# Altium integrated library Infineon_Power_Supply_Voltage_Regulator.IntLib: 346 symbols (part 9 of 16)
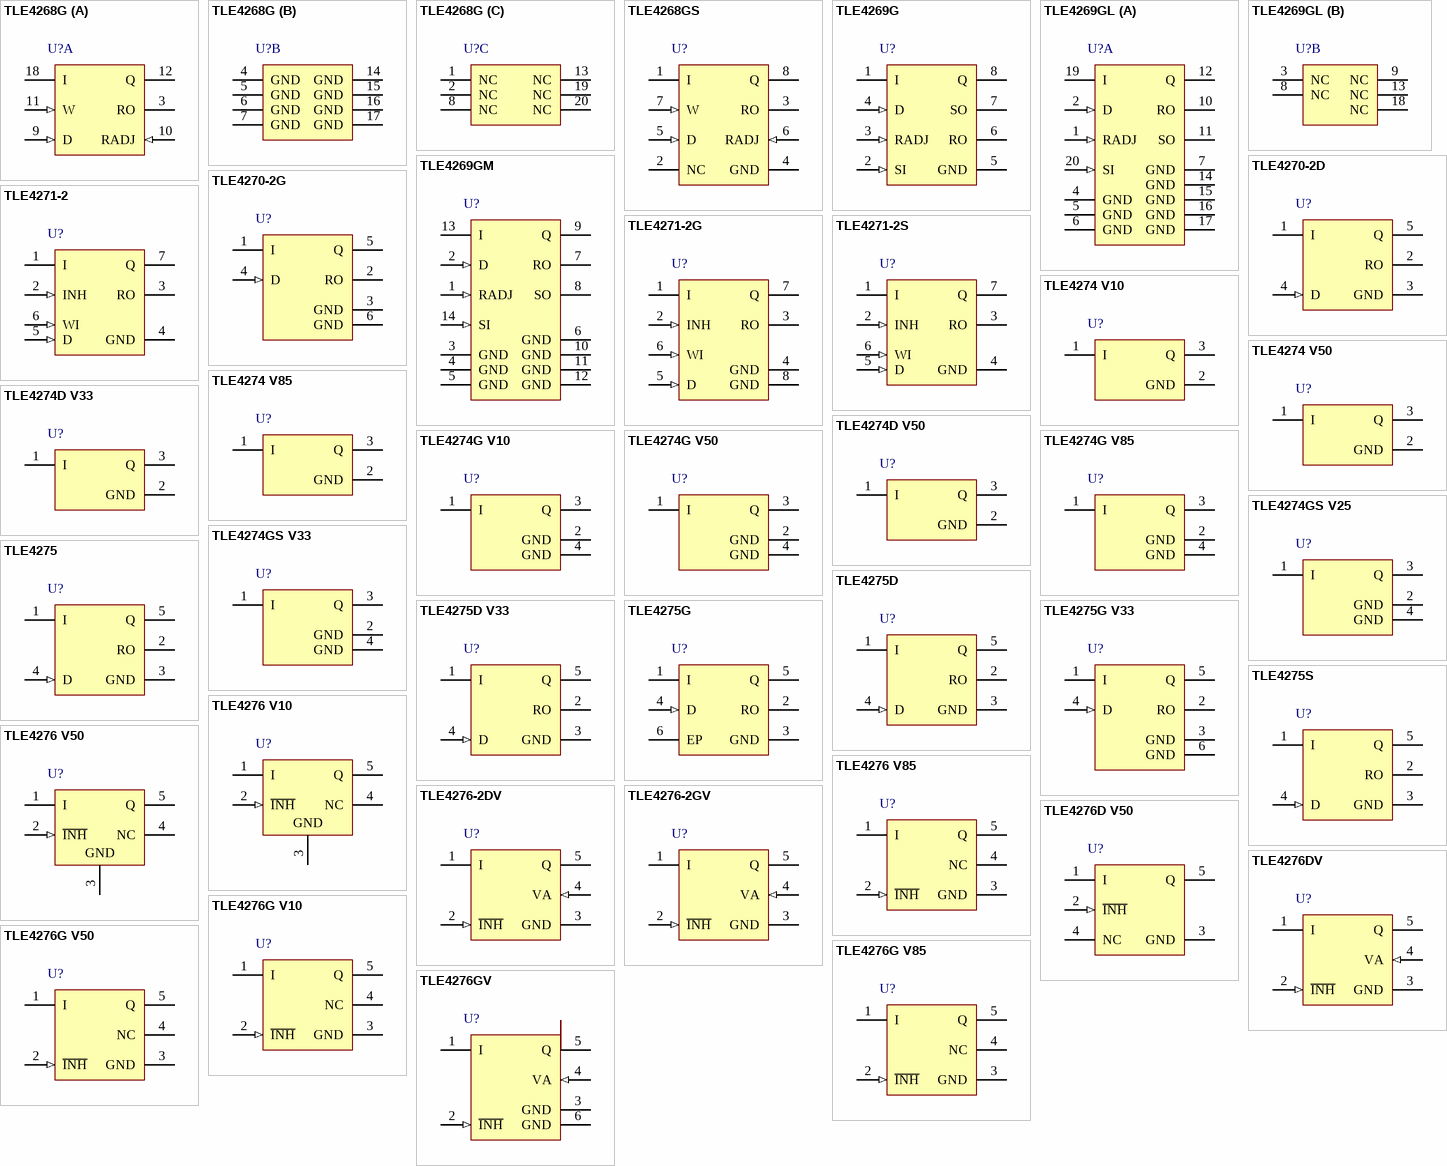
[diagram p17: symbols TLE4268G to TLE4276GV]

## TLE4274 V10
designator U?
Low Drop Voltage Regulator, 10.5 to 40 V Supply, 10 V Output, -40 to 150 degC, PG-TO220-3-1, Tube, Green; Manufacturer: Infineon; PartNumber: TLE4274 V10; Accuracy: 4 %; Dropout Voltage: 250 mV; Green: TRUE; Max. Output Current: 400 mA; Output Voltage: 10V; Regulator Type: single output; Typical Quiescent Current: 100 uA; DatasheetVersion: Rev. 1.7; PackageVersion: Jul-12; PackageReference: PG-TO220-3-1; PackageDescription: 3-Pin Plastic (Green) Transistor Single Outline Package, 10 x 9.25 mm Body, 2.54 mm Pitch; Supplier 1: Digi-Key; Supplier Part Number 1: TLE4274 V10-ND; Halogen-free: TRUE; Operating Range: 10.5 to 40 V; Packing: Tube; Mounting Technology: Through Hole; ComponentLink1Description: Manufacturer URL; ComponentLink1URL: http://www.infineon.com/; ComponentLink2Description: Datasheet; ComponentLink2URL: http://www.infineon.com/dgdl/TLE4274_DS_V17.pdf?folderId=db3a304318f3fe290118f5a433570040&fileId=db3a30431be39b97011c4124fc637944&location=en.Products.Automotive_ICs.Linear_Voltage_Regulators_for_Automotive-Applications.Linear_Voltage_Regulators_-_Selection_Table.DATASHEET.TLE4274_DS_V17.pdf; ComponentLink3Description: Package Specification; ComponentLink3URL: http://www.infineon.com/dgdl/BTS117_DS_14.pdf?folderId=db3a30431400ef68011421b54e2e0564&fileId=db3a30433a747525013abff8302d549c&location=en.Products.Automotive_ICs.Smart_High-_and_Low-Side_Switches.HITFET___TEMPFET__-_Smart_Low-Side_Switches.DATASHEET.BTS117_DS_14.pdf
footprint INF-PG-TO220-3-1 (FM, 3-Leads, Body 10x4.4mm, Pitch 2.54mm)
pins: 1 I (power) "Input; block to ground directly at the IC with a ceramic capacitor.", 2 GND (power) "Ground; Connected to the heatsink of the package.", 3 Q (power) "Output; block to ground with a ceramic capacitor."

## TLE4274 V50
designator U?
Low Drop Voltage Regulator, 5.5 to 40 V Supply, 5 V Output, -40 to 150 degC, PG-TO220-3-1, Tube, Green; Manufacturer: Infineon; PartNumber: TLE4274 V50; Accuracy: 4 %; Dropout Voltage: 250 mV; Green: TRUE; Max. Output Current: 400 mA; Output Voltage: 5V; Regulator Type: single output; Typical Quiescent Current: 100 uA; DatasheetVersion: Rev. 1.7; PackageVersion: Jul-12; PackageReference: PG-TO220-3-1; PackageDescription: 3-Pin Plastic (Green) Transistor Single Outline Package, 10 x 9.25 mm Body, 2.54 mm Pitch; Supplier 1: Digi-Key; Supplier Part Number 1: TLE4274V50IN-ND; Halogen-free: TRUE; Operating Range: 5.5 to 40 V; Packing: Tube; Mounting Technology: Through Hole; ComponentLink1Description: Manufacturer URL; ComponentLink1URL: http://www.infineon.com/; ComponentLink2Description: Datasheet; ComponentLink2URL: http://www.infineon.com/dgdl/TLE4274_DS_V17.pdf?folderId=db3a304318f3fe290118f5a433570040&fileId=db3a30431be39b97011c4124fc637944&location=en.Products.Automotive_ICs.Linear_Voltage_Regulators_for_Automotive-Applications.Linear_Voltage_Regulators_-_Selection_Table.DATASHEET.TLE4274_DS_V17.pdf; ComponentLink3Description: Package Specification; ComponentLink3URL: http://www.infineon.com/dgdl/BTS117_DS_14.pdf?folderId=db3a30431400ef68011421b54e2e0564&fileId=db3a30433a747525013abff8302d549c&location=en.Products.Automotive_ICs.Smart_High-_and_Low-Side_Switches.HITFET___TEMPFET__-_Smart_Low-Side_Switches.DATASHEET.BTS117_DS_14.pdf
footprint INF-PG-TO220-3-1 (FM, 3-Leads, Body 10x4.4mm, Pitch 2.54mm)
pins: 1 I (power) "Input; block to ground directly at the IC with a ceramic capacitor.", 2 GND (power) "Ground; Connected to the heatsink of the package.", 3 Q (power) "Output; block to ground with a ceramic capacitor."

## TLE4274 V85
designator U?
Low Drop Voltage Regulator, 9 to 40 V Supply, 8.5 V Output, -40 to 150 degC, PG-TO220-3-1, Tube, Green; Manufacturer: Infineon; PartNumber: TLE4274 V85; Accuracy: 4 %; Dropout Voltage: 250 mV; Green: TRUE; Max. Output Current: 400 mA; Operating Range: 9 to 40 V; Output Voltage: 8.5V; Regulator Type: single output; Typical Quiescent Current: 100 uA; DatasheetVersion: Rev. 1.7; PackageVersion: Jul-12; PackageReference: PG-TO220-3-1; PackageDescription: 3-Pin Plastic (Green) Transistor Single Outline Package, 10 x 9.25 mm Body, 2.54 mm Pitch; Supplier 1: Digi-Key; Supplier Part Number 1: TLE4274V85-ND; Halogen-free: TRUE; Packing: Tube; Mounting Technology: Through Hole; ComponentLink1Description: Manufacturer URL; ComponentLink1URL: http://www.infineon.com/; ComponentLink2Description: Datasheet; ComponentLink2URL: http://www.infineon.com/dgdl/TLE4274_DS_V17.pdf?folderId=db3a304318f3fe290118f5a433570040&fileId=db3a30431be39b97011c4124fc637944&location=en.Products.Automotive_ICs.Linear_Voltage_Regulators_for_Automotive-Applications.Linear_Voltage_Regulators_-_Selection_Table.DATASHEET.TLE4274_DS_V17.pdf; ComponentLink3Description: Package Specification; ComponentLink3URL: http://www.infineon.com/dgdl/BTS117_DS_14.pdf?folderId=db3a30431400ef68011421b54e2e0564&fileId=db3a30433a747525013abff8302d549c&location=en.Products.Automotive_ICs.Smart_High-_and_Low-Side_Switches.HITFET___TEMPFET__-_Smart_Low-Side_Switches.DATASHEET.BTS117_DS_14.pdf
footprint INF-PG-TO220-3-1 (FM, 3-Leads, Body 10x4.4mm, Pitch 2.54mm)
pins: 1 I (power) "Input; block to ground directly at the IC with a ceramic capacitor.", 2 GND (power) "Ground; Connected to the heatsink of the package.", 3 Q (power) "Output; block to ground with a ceramic capacitor."

## TLE4274D V33
designator U?
3.3 V Voltage Regulator, 4.7 to 40 V Supply, -40 to 150 degC, PG-TO252-3-11, Reel, Green; Manufacturer: Infineon; PartNumber: TLE4274D V33; Accuracy: 4 %; Dropout Voltage: 700 mV; Green: TRUE; Max. Output Current: 400 mA; Output Voltage: 3.3V; Regulator Type: single output; Typical Quiescent Current: 100 uA; DatasheetVersion: Rev. 2.3; PackageVersion: Dec-06; PackageReference: PG-TO252-3-11; PackageDescription: 3-Pin Plastic (Green) Transistor Single Outline Package, 6.5 x 6.12 mm Body, 2.28 mm Pitch; Supplier 1: Mouser; Supplier Part Number 1: 726-TLE4274DV33; Supplier 2: Newark; Supplier Part Number 2: 47W3774; Supplier 3: Farnell; Supplier Part Number 3: 2215557; Supplier 4: Digi-Key; Supplier Part Number 4: TLE4274D V33TR-ND; Supplier 5: Digi-Key; Supplier Part Number 5: TLE4274D V33CT-ND; Supplier 6: Digi-Key; Supplier Part Number 6: TLE4274D V33DKR-ND; Halogen-free: TRUE; Operating Range: 4.7 to 40 V; Packing: Reel; Mounting Technology: Surface Mount; ComponentLink1Description: Manufacturer URL; ComponentLink1URL: http://www.infineon.com/; ComponentLink2Description: Datasheet; ComponentLink2URL: http://www.infineon.com/dgdl/TLE4274v33v25_DS_23.pdf?folderId=db3a30431ff988150120802bce1d257a&fileId=db3a30431ff98815012080310b472588&location=en.Products.Automotive_ICs.Linear_Voltage_Regulators_for_Automotive-Applications.Linear_Voltage_Regulators_-_Selection_Table.DATASHEET.TLE4274v33v25_DS_23.pdf; ComponentLink3Description: Package Specification; ComponentLink3URL: http://www.infineon.com/dgdl/BTS142_DS_13.pdf?folderId=db3a3043163797a6011667aa084c0e01&fileId=db3a3043163797a6011667ac98be0e02&location=en.Products.Automotive_ICs.Smart_High-_and_Low-Side_Switches.HITFET___TEMPFET__-_Smart_Low-Side_Switches.DATASHEET.BTS142_DS_13.pdf
footprint INF-PG-TO252-3-11_N (DPAK, 3-Leads, Body 6.5x6.12mm, Pitch 2.28mm, IPC Medium Density)
footprint INF-PG-TO252-3-11_L (DPAK, 3-Leads, Body 6.5x6.12mm, Pitch 2.28mm, IPC High Density)
footprint INF-PG-TO252-3-11_M (DPAK, 3-Leads, Body 6.5x6.12mm, Pitch 2.28mm, IPC Low Density)
pins: 1 I (power), 2 GND (power), 3 Q (power)

## TLE4274D V50
designator U?
Low Drop Voltage Regulator, 5.5 to 40 V Supply, 5 V Output, -40 to 150 degC, PG-TO252-3-11, Reel, Green; Manufacturer: Infineon; PartNumber: TLE4274D V50; Accuracy: 4 %; Dropout Voltage: 250 mV; Green: TRUE; Max. Output Current: 400 mA; Output Voltage: 5V; Regulator Type: single output; Typical Quiescent Current: 100 uA; DatasheetVersion: Rev. 1.7; PackageVersion: Dec-06; PackageReference: PG-TO252-3-11; PackageDescription: 3-Pin Plastic (Green) Transistor Single Outline Package, 6.5 x 6.12 mm Body, 2.28 mm Pitch; Supplier 1: Digi-Key; Supplier Part Number 1: TLE4274D V50TR-ND; Supplier 2: Digi-Key; Supplier Part Number 2: TLE4274D V50CT-ND; Supplier 3: Digi-Key; Supplier Part Number 3: TLE4274D V50DKR-ND; Halogen-free: TRUE; Operating Range: 5.5 to 40 V; Packing: Reel; Mounting Technology: Surface Mount; ComponentLink1Description: Manufacturer URL; ComponentLink1URL: http://www.infineon.com/; ComponentLink2Description: Datasheet; ComponentLink2URL: http://www.infineon.com/dgdl/TLE4274_DS_V17.pdf?folderId=db3a304318f3fe290118f5a433570040&fileId=db3a30431be39b97011c4124fc637944&location=en.Products.Automotive_ICs.Linear_Voltage_Regulators_for_Automotive-Applications.Linear_Voltage_Regulators_-_Selection_Table.DATASHEET.TLE4274_DS_V17.pdf; ComponentLink3Description: Package Specification; ComponentLink3URL: http://www.infineon.com/dgdl/BTS142_DS_13.pdf?folderId=db3a3043163797a6011667aa084c0e01&fileId=db3a3043163797a6011667ac98be0e02&location=en.Products.Automotive_ICs.Smart_High-_and_Low-Side_Switches.HITFET___TEMPFET__-_Smart_Low-Side_Switches.DATASHEET.BTS142_DS_13.pdf
footprint INF-PG-TO252-3-11_N (DPAK, 3-Leads, Body 6.5x6.12mm, Pitch 2.28mm, IPC Medium Density)
footprint INF-PG-TO252-3-11_L (DPAK, 3-Leads, Body 6.5x6.12mm, Pitch 2.28mm, IPC High Density)
footprint INF-PG-TO252-3-11_M (DPAK, 3-Leads, Body 6.5x6.12mm, Pitch 2.28mm, IPC Low Density)
pins: 1 I (power), 2 GND (power), 3 Q (power)

## TLE4274G V10
designator U?
Low Drop Voltage Regulator, 10.5 to 40 V Supply, 10 V Output, -40 to 150 degC, PG-TO263-3-1, Reel, Green; Manufacturer: Infineon; PartNumber: TLE4274G V10; Accuracy: 4 %; Dropout Voltage: 250 mV; Green: TRUE; Max. Output Current: 400 mA; Output Voltage: 10V; Regulator Type: single output; Typical Quiescent Current: 100 uA; DatasheetVersion: Rev. 1.7; PackageVersion: Jan-10; PackageReference: PG-TO263-3-1; PackageDescription: 3-Pin Plastic (Green) Transistor Single Outline Package, 10 x 9.25 mm Body, 2.54 mm Pitch; Supplier 1: Digi-Key; Supplier Part Number 1: TLE4274G V10TR-ND; Supplier 2: Digi-Key; Supplier Part Number 2: TLE4274G V10CT-ND; Supplier 3: Digi-Key; Supplier Part Number 3: TLE4274G V10DKR-ND; Halogen-free: TRUE; Operating Range: 10.5 to 40 V; Packing: Reel; Mounting Technology: Surface Mount; ComponentLink1Description: Manufacturer URL; ComponentLink1URL: http://www.infineon.com/; ComponentLink2Description: Datasheet; ComponentLink2URL: http://www.infineon.com/dgdl/TLE4274_DS_V17.pdf?folderId=db3a304318f3fe290118f5a433570040&fileId=db3a30431be39b97011c4124fc637944&location=en.Products.Automotive_ICs.Linear_Voltage_Regulators_for_Automotive-Applications.Linear_Voltage_Regulators_-_Selection_Table.DATASHEET.TLE4274_DS_V17.pdf; ComponentLink3Description: Package Specification; ComponentLink3URL: http://www.infineon.com/dgdl/TLE42744_DS_11.pdf?folderId=db3a304318f3fe290118f5a433570040&fileId=db3a304327b897500128012ccafe37d2&sId=db3a30443d67b5ca013d83f7c0ea327b
footprint INF-PG-TO263-3-1_N (DPAK, 3-Leads, Body 10x9.25mm, Pitch 2.54mm, IPC Medium Density)
footprint INF-PG-TO263-3-1_L (DPAK, 3-Leads, Body 10x9.25mm, Pitch 2.54mm, IPC High Density)
footprint INF-PG-TO263-3-1_M (DPAK, 3-Leads, Body 10x9.25mm, Pitch 2.54mm, IPC Low Density)
pins: 1 I (power) "Input, block to ground directly at the IC with a ceramic capacitor", 2 GND (power) "Ground", 3 Q (power) "Output, block to ground with capacitor CQ>=10uF, ESR<=2.5 ohm", 4 GND (power) "Ground"

## TLE4274G V50
designator U?
Low Drop Voltage Regulator, 5.5 to 40 V Supply, 5 V Output, -40 to 150 degC, PG-TO263-3-1, Reel, Green; Manufacturer: Infineon; PartNumber: TLE4274G V50; Accuracy: 4 %; Dropout Voltage: 250 mV; Green: TRUE; Max. Output Current: 400 mA; Output Voltage: 5V; Regulator Type: single output; Typical Quiescent Current: 100 uA; DatasheetVersion: Rev. 1.7; PackageVersion: Jan-10; PackageReference: PG-TO263-3-1; PackageDescription: 3-Pin Plastic (Green) Transistor Single Outline Package, 10 x 9.25 mm Body, 2.54 mm Pitch; Supplier 1: Digi-Key; Supplier Part Number 1: TLE4274G V50TR-ND; Supplier 2: Digi-Key; Supplier Part Number 2: TLE4274G V50CT-ND; Supplier 3: Digi-Key; Supplier Part Number 3: TLE4274G V50DKR-ND; Halogen-free: TRUE; Operating Range: 5.5 to 40 V; Packing: Reel; Mounting Technology: Surface Mount; ComponentLink1Description: Manufacturer URL; ComponentLink1URL: http://www.infineon.com/; ComponentLink2Description: Datasheet; ComponentLink2URL: http://www.infineon.com/dgdl/TLE4274_DS_V17.pdf?folderId=db3a304318f3fe290118f5a433570040&fileId=db3a30431be39b97011c4124fc637944&location=en.Products.Automotive_ICs.Linear_Voltage_Regulators_for_Automotive-Applications.Linear_Voltage_Regulators_-_Selection_Table.DATASHEET.TLE4274_DS_V17.pdf; ComponentLink3Description: Package Specification; ComponentLink3URL: http://www.infineon.com/dgdl/TLE42744_DS_11.pdf?folderId=db3a304318f3fe290118f5a433570040&fileId=db3a304327b897500128012ccafe37d2&sId=db3a30443d67b5ca013d83f7c0ea327b
footprint INF-PG-TO263-3-1_N (DPAK, 3-Leads, Body 10x9.25mm, Pitch 2.54mm, IPC Medium Density)
footprint INF-PG-TO263-3-1_L (DPAK, 3-Leads, Body 10x9.25mm, Pitch 2.54mm, IPC High Density)
footprint INF-PG-TO263-3-1_M (DPAK, 3-Leads, Body 10x9.25mm, Pitch 2.54mm, IPC Low Density)
pins: 1 I (power) "Input, block to ground directly at the IC with a ceramic capacitor", 2 GND (power) "Ground", 3 Q (power) "Output, block to ground with capacitor CQ>=10uF, ESR<=2.5 ohm", 4 GND (power) "Ground"

## TLE4274G V85
designator U?
Low Drop Voltage Regulator, 9 to 40 V Supply, 8.5 V Output, -40 to 150 degC, PG-TO263-3-1, Reel, Green; Manufacturer: Infineon; PartNumber: TLE4274G V85; Accuracy: 4 %; Dropout Voltage: 250 mV; Green: TRUE; Max. Output Current: 400 mA; Operating Range: 9 to 40 V; Output Voltage: 8.5V; Regulator Type: single output; Typical Quiescent Current: 100 uA; DatasheetVersion: Rev. 1.7; PackageVersion: Jan-10; PackageReference: PG-TO263-3-1; PackageDescription: 3-Pin Plastic (Green) Transistor Single Outline Package, 10 x 9.25 mm Body, 2.54 mm Pitch; Supplier 1: Digi-Key; Supplier Part Number 1: TLE4274G V85INTR-ND; Supplier 2: Digi-Key; Supplier Part Number 2: TLE4274G V85INCT-ND; Supplier 3: Digi-Key; Supplier Part Number 3: TLE4274G V85INDKR-ND; Halogen-free: TRUE; Packing: Reel; Mounting Technology: Surface Mount; ComponentLink1Description: Manufacturer URL; ComponentLink1URL: http://www.infineon.com/; ComponentLink2Description: Datasheet; ComponentLink2URL: http://www.infineon.com/dgdl/TLE4274_DS_V17.pdf?folderId=db3a304318f3fe290118f5a433570040&fileId=db3a30431be39b97011c4124fc637944&location=en.Products.Automotive_ICs.Linear_Voltage_Regulators_for_Automotive-Applications.Linear_Voltage_Regulators_-_Selection_Table.DATASHEET.TLE4274_DS_V17.pdf; ComponentLink3Description: Package Specification; ComponentLink3URL: http://www.infineon.com/dgdl/TLE42744_DS_11.pdf?folderId=db3a304318f3fe290118f5a433570040&fileId=db3a304327b897500128012ccafe37d2&sId=db3a30443d67b5ca013d83f7c0ea327b
footprint INF-PG-TO263-3-1_N (DPAK, 3-Leads, Body 10x9.25mm, Pitch 2.54mm, IPC Medium Density)
footprint INF-PG-TO263-3-1_L (DPAK, 3-Leads, Body 10x9.25mm, Pitch 2.54mm, IPC High Density)
footprint INF-PG-TO263-3-1_M (DPAK, 3-Leads, Body 10x9.25mm, Pitch 2.54mm, IPC Low Density)
pins: 1 I (power) "Input, block to ground directly at the IC with a ceramic capacitor", 2 GND (power) "Ground", 3 Q (power) "Output, block to ground with capacitor CQ>=10uF, ESR<=2.5 ohm", 4 GND (power) "Ground"

## TLE4274GS V25
designator U?
Voltage Regulator, 4.7 to 40 V Supply, 2.5 V Output, -40 to 150 degC, PG-SOT223 (SC-73), Reel, Green; Manufacturer: Infineon; PartNumber: TLE4274GS V25; Accuracy: 4 %; Dropout Voltage: 1000 mV; Green: TRUE; Max. Output Current: 400 mA; Output Voltage: 2.5V; Regulator Type: single output; Typical Quiescent Current: 100 uA; DatasheetVersion: Rev. 2.3; PackageVersion: Apr-08; PackageReference: PG-SOT223 (SC-73); PackageDescription: 4-Pin Small Outline Transistor Package, 6.5 x 3.5 mm Body, 2.3 mm Pitch; Supplier 1: Mouser; Supplier Part Number 1: 726-TLE4274GSV25; Supplier 2: Digi-Key; Supplier Part Number 2: TLE4274GS V25TR-ND; Supplier 3: Digi-Key; Supplier Part Number 3: TLE4274GS V25CT-ND; Supplier 4: Digi-Key; Supplier Part Number 4: TLE4274GS V25DKR-ND; Operating Range: 4.7 to 40 V; Packing: Reel; Mounting Technology: Surface Mount; ComponentLink1Description: Manufacturer URL; ComponentLink1URL: http://www.infineon.com/; ComponentLink2Description: Datasheet; ComponentLink2URL: http://www.infineon.com/dgdl/TLE4274v33v25_DS_23.pdf?folderId=db3a30431ddc9372011e26863f92474e&fileId=db3a3043271faefd01272e09a284749d&location=en.Products.Automotive_ICs.Linear_Voltage_Regulators_for_Automotive-Applications.Linear_Voltage_Regulators_-_Selection_Table.DATASHEET.TLE4274v33v25_DS_23.pdf; ComponentLink3Description: Package Specification; ComponentLink3URL: http://www.infineon.com/dgdl/SOT223-Package_Overview.pdf?folderId=db3a30431936bc4b0119530470b03c3d&fileId=db3a30431936bc4b0119531d40b93c5c
footprint INF-PG-SOT223_SC-73_N (SOT223, 4-Leads, Body 6.5x3.5mm, Pitch 2.3mm, IPC Medium Density)
footprint INF-PG-SOT223_SC-73_L (SOT223, 4-Leads, Body 6.5x3.5mm, Pitch 2.3mm, IPC High Density)
footprint INF-PG-SOT223_SC-73_M (SOT223, 4-Leads, Body 6.5x3.5mm, Pitch 2.3mm, IPC Low Density)
pins: 1 I (power) "Input, block to ground directly at the IC with a ceramic capacitor", 2 GND (power) "Ground", 3 Q (power) "Output, block to ground with capacitor CQ>=10uF, ESR<=2.5 ohm", 4 GND (power) "Ground"

## TLE4274GS V33
designator U?
Voltage Regulator, 4.7 to 40 V Supply, 3.3 V Output, -40 to 150 degC, PG-SOT223 (SC-73), Reel, Green; Manufacturer: Infineon; PartNumber: TLE4274GS V33; Accuracy: 4 %; Dropout Voltage: 700 mV; Green: TRUE; Max. Output Current: 400 mA; Output Voltage: 3.3V; Regulator Type: single output; Typical Quiescent Current: 100 uA; DatasheetVersion: Rev. 2.3; PackageVersion: Apr-08; PackageReference: PG-SOT223 (SC-73); PackageDescription: 4-Pin Small Outline Transistor Package, 6.5 x 3.5 mm Body, 2.3 mm Pitch; Supplier 1: Digi-Key; Supplier Part Number 1: TLE4274GS V33TR-ND; Supplier 2: Digi-Key; Supplier Part Number 2: TLE4274GS V33CT-ND; Supplier 3: Digi-Key; Supplier Part Number 3: TLE4274GS V33DKR-ND; Operating Range: 4.7 to 40 V; Packing: Reel; Mounting Technology: Surface Mount; ComponentLink1Description: Manufacturer URL; ComponentLink1URL: http://www.infineon.com/; ComponentLink2Description: Datasheet; ComponentLink2URL: http://www.infineon.com/dgdl/TLE4274v33v25_DS_23.pdf?folderId=db3a30431ff988150120802bce1d257a&fileId=db3a30431ff98815012080310b472588&location=en.Products.Automotive_ICs.Linear_Voltage_Regulators_for_Automotive-Applications.Linear_Voltage_Regulators_-_Selection_Table.DATASHEET.TLE4274v33v25_DS_23.pdf; ComponentLink3Description: Package Specification; ComponentLink3URL: http://www.infineon.com/dgdl/SOT223-Package_Overview.pdf?folderId=db3a30431936bc4b0119530470b03c3d&fileId=db3a30431936bc4b0119531d40b93c5c
footprint INF-PG-SOT223_SC-73_N (SOT223, 4-Leads, Body 6.5x3.5mm, Pitch 2.3mm, IPC Medium Density)
footprint INF-PG-SOT223_SC-73_L (SOT223, 4-Leads, Body 6.5x3.5mm, Pitch 2.3mm, IPC High Density)
footprint INF-PG-SOT223_SC-73_M (SOT223, 4-Leads, Body 6.5x3.5mm, Pitch 2.3mm, IPC Low Density)
pins: 1 I (power) "Input, block to ground directly at the IC with a ceramic capacitor", 2 GND (power) "Ground", 3 Q (power) "Output, block to ground with capacitor CQ>=10uF, ESR<=2.5 ohm", 4 GND (power) "Ground"

## TLE4275
designator U?
Low Drop Fixed Voltage Regulator, 5.5 to 42 V Supply, 5 V Output, -40 to 150 degC, PG-TO220-5-11, Tube, Green; Manufacturer: Infineon; PartNumber: TLE4275; Accuracy: 2 %; Dropout Voltage: 250 mV; Green: TRUE; Max. Output Current: 400 mA; Output Voltage: 5V; Regulator Type: single output; Typical Quiescent Current: 150 uA; DatasheetVersion: Rev. 1.7; PackageVersion: Jan-10; PackageReference: PG-TO220-5-11; PackageDescription: 5-Pin Plastic (Green) Transistor Single Outline Package, 10 x 9.25 mm, 1.7 mm Pitch; Supplier 1: Digi-Key; Supplier Part Number 1: TLE4275-ND; Halogen-free: TRUE; Operating Range: 5.5 to 42 V; Packing: Tube; Mounting Technology: Through Hole; ComponentLink1Description: Manufacturer URL; ComponentLink1URL: http://www.infineon.com/; ComponentLink2Description: Datasheet; ComponentLink2URL: http://www.infineon.com/dgdl/TLE4275v50_DS_rev1.7%5B1%5D.pdf?folderId=db3a304318f3fe290118f5a433570040&fileId=db3a30431be39b97011c4147dace794d&location=en.Products.Automotive_ICs.Linear_Voltage_Regulators_for_Automotive-Applications.Linear_Voltage_Regulators_-_Selection_Table.DATASHEET.TLE4275v50_DS_rev1.7[1].pdf; ComponentLink3Description: Package Specification; ComponentLink3URL: http://www.infineon.com/dgdl/BTS432E2_DS_v11.pdf?folderId=db3a304314dca389011537739e37155f&fileId=db3a304326623792012688c5622b6cb7&sId=db3a30433d68e984013d81a7c1fa73ed
footprint INF-PG-TO220-5-11 (FM, 5-Leads, Body 10x4.4mm, Pitch 1.7mm)
pins: 1 I (power) "Input; block to ground directly at the IC by a ceramic capacitor.", 2 RO (oc) "Reset Output; open collector output", 3 GND (power) "Ground; Pin 3 internally connected to heatsink", 4 D (in) "Reset Delay; connect capacitor to GND for setting delay time", 5 Q (power) "Output; block to ground with a >= 22 uF capacitor, ESR < 5 ohm at 10 kHz."

## TLE4275D
designator U?
Low Drop Fixed Voltage Regulator, 5.5 to 42 V Supply, 5 V Output, -40 to 150 degC, PG-TO252-5-11, Reel, Green; Manufacturer: Infineon; PartNumber: TLE4275D; Accuracy: 2 %; Dropout Voltage: 250 mV; Green: TRUE; Max. Output Current: 400 mA; Output Voltage: 5V; Regulator Type: single output; Typical Quiescent Current: 150 uA; DatasheetVersion: Rev. 1.7; PackageVersion: Nov-10; PackageReference: PG-TO252-5-11; PackageDescription: 5-Pin Plastic (Green) Transistor Single Outline Package, 6.5 x 6.12 mm Body, 1.14 mm Pitch; Supplier 1: Digi-Key; Supplier Part Number 1: TLE4275DTR-ND; Supplier 2: Digi-Key; Supplier Part Number 2: TLE4275DCT-ND; Supplier 3: Digi-Key; Supplier Part Number 3: TLE4275DDKR-ND; Halogen-free: TRUE; Operating Range: 5.5 to 42 V; Packing: Reel; Mounting Technology: Surface Mount; ComponentLink1Description: Manufacturer URL; ComponentLink1URL: http://www.infineon.com/; ComponentLink2Description: Datasheet; ComponentLink2URL: http://www.infineon.com/dgdl/TLE4275v50_DS_rev1.7.pdf?folderId=db3a304412b407950112b408e8c90004&fileId=db3a304412b407950112b437f96169d5&location=en.Products.Automotive_ICs.Linear_Voltage_Regulators_for_Automotive-Applications.Linear_Voltage_Regulators_-_Selection_Table.DATASHEET.TLE4275v50_DS_rev1.7.pdf; ComponentLink3Description: Package Specification; ComponentLink3URL: http://www.infineon.com/dgdl/TLE7276-Data+Sheet-+v1_11.pdf?folderId=db3a304412b407950112b408e8c90004&fileId=db3a304412b407950112b436c53f66c8&sId=db3a30433db6f09f013dc0e43c0428c1
footprint INF-PG-TO252-5-11_N (DPAK, 5-Leads, Body 6.5x6.12mm, Pitch 1.14mm, IPC Medium Density)
footprint INF-PG-TO252-5-11_L (DPAK, 5-Leads, Body 6.5x6.12mm, Pitch 1.14mm, IPC High Density)
footprint INF-PG-TO252-5-11_M (DPAK, 5-Leads, Body 6.5x6.12mm, Pitch 1.14mm, IPC Low Density)
pins: 1 I (power) "Input; block to ground directly at the IC by a ceramic capacitor.", 2 RO (oc) "Reset Output; open collector output", 3 GND (power) "Ground; Pin 3 internally connected to heatsink", 4 D (in) "Reset Delay; connect capacitor to GND for setting delay time", 5 Q (power) "Output; block to ground with a >= 22 uF capacitor, ESR < 5 ohm at 10 kHz."

## TLE4275D V33
designator U?
Linear Voltage Regulator 3.3 V Fixed Output Voltage, 4.4 to 42 V Supply, -40 to 150 degC, PG-TO252-5-11, Reel, Green; Manufacturer: Infineon; PartNumber: TLE4275D V33; Accuracy: 2 %; Green: TRUE; Max. Output Current: 400 mA; Output Voltage: 3.3V; Regulator Type: single output; Typical Quiescent Current: 180 uA; DatasheetVersion: Rev. 1.0; PackageVersion: Nov-10; PackageReference: PG-TO252-5-11; PackageDescription: 5-Pin Plastic (Green) Transistor Single Outline Package, 6.5 x 6.12 mm Body, 1.14 mm Pitch; Supplier 1: Mouser; Supplier Part Number 1: 726-TLE4275DV33; Supplier 2: Digi-Key; Supplier Part Number 2: TLE4275D V33INTR-ND; Supplier 3: Digi-Key; Supplier Part Number 3: TLE4275D V33INCT-ND; Supplier 4: Digi-Key; Supplier Part Number 4: TLE4275D V33INDKR-ND; Dropout Voltage: n/a; Halogen-free: TRUE; Operating Range: 4.4 to 42 V; Packing: Reel; Mounting Technology: Surface Mount; ComponentLink1Description: Manufacturer URL; ComponentLink1URL: http://www.infineon.com/; ComponentLink2Description: Datasheet; ComponentLink2URL: http://www.infineon.com/dgdl/TLE4275v33_DS_rev1.0%5B1%5D.pdf?folderId=db3a304318f3fe290118f5a433570040&fileId=db3a30431be39b97011c41ddba1979dc&location=en.Products.Automotive_ICs.Linear_Voltage_Regulators_for_Automotive-Applications.Linear_Voltage_Regulators_-_Selection_Table.DATASHEET.TLE4275v33_DS_rev1.0[1].pdf; ComponentLink3Description: Package Specification; ComponentLink3URL: http://www.infineon.com/dgdl/TLE7276-Data+Sheet-+v1_11.pdf?folderId=db3a304412b407950112b408e8c90004&fileId=db3a304412b407950112b436c53f66c8&sId=db3a30433db6f09f013dc0e43c0428c1
footprint INF-PG-TO252-5-11_N (DPAK, 5-Leads, Body 6.5x6.12mm, Pitch 1.14mm, IPC Medium Density)
footprint INF-PG-TO252-5-11_L (DPAK, 5-Leads, Body 6.5x6.12mm, Pitch 1.14mm, IPC High Density)
footprint INF-PG-TO252-5-11_M (DPAK, 5-Leads, Body 6.5x6.12mm, Pitch 1.14mm, IPC Low Density)
pins: 1 I (power) "Input, for compensating line influences, a capacitor to GND close to the IC terminals is  recommended", 2 RO (oc) "Reset Output, open collector output; external pull-up resistor to a positive potential required; leave open if the reset function is not needed", 3 GND (power) "Ground, connect to heatsink area", 4 D (in) "Reset Delay Timing, connect a ceramic capacitor to GND for adjusting the reset delay time; leave open if the reset function is not needed", 5 Q (power) "Output, block to GND with a capacitor close to the IC terminals, respecting the values given  for its capacitance CQ and ESR in the table “Functional Range?on Page 8"

## TLE4275G
designator U?
Low Drop Fixed Voltage Regulator, 5.5 to 42 V Supply, 5 V Output, -40 to 150 degC, PG-TO263-5-1, Reel, Green; Manufacturer: Infineon; PartNumber: TLE4275G; Accuracy: 2 %; Dropout Voltage: 250 mV; Green: TRUE; Max. Output Current: 400 mA; Output Voltage: 5V; Regulator Type: single output; Typical Quiescent Current: 150 uA; DatasheetVersion: Rev. 1.7; PackageVersion: Sep-08; PackageReference: PG-TO263-5-1; PackageDescription: 5-Pin Plastic (Green) Transistor Single Outline Package, 10 x 9.25 mm Body, 1.7 mm Pitch; Supplier 1: Mouser; Supplier Part Number 1: 726-TLE4275GXT; Supplier 2: Digi-Key; Supplier Part Number 2: TLE4275GINTR-ND; Supplier 3: Digi-Key; Supplier Part Number 3: TLE4275GINCT-ND; Supplier 4: Digi-Key; Supplier Part Number 4: TLE4275GINDKR-ND; Halogen-free: TRUE; Operating Range: 5.5 to 42 V; Packing: Reel; Mounting Technology: Surface Mount; ComponentLink1Description: Manufacturer URL; ComponentLink1URL: http://www.infineon.com/; ComponentLink2Description: Datasheet; ComponentLink2URL: http://www.infineon.com/dgdl/TLE4275v50_DS_rev1.7.pdf?folderId=db3a304412b407950112b408e8c90004&fileId=db3a304412b407950112b437f96169d5&location=en.Products.Automotive_ICs.Linear_Voltage_Regulators_for_Automotive-Applications.Linear_Voltage_Regulators_-_Selection_Table.DATASHEET.TLE4275v50_DS_rev1.7.pdf; ComponentLink3Description: Package Specification; ComponentLink3URL: http://www.infineon.com/dgdl/TLE4675_DS10.pdf?folderId=db3a30431ddc9372011e26863f92474e&fileId=db3a30431ff9881501201fa645654e52&sId=db3a30433d68e984013d8b6677a5267d
footprint INF-PG-TO263-5-1_N (DPAK, 5-Leads, Body 10x9.25mm, Pitch 1.7mm, IPC Medium Density)
footprint INF-PG-TO263-5-1_L (DPAK, 5-Leads, Body 10x9.25mm, Pitch 1.7mm, IPC High Density)
footprint INF-PG-TO263-5-1_M (DPAK, 5-Leads, Body 10x9.25mm, Pitch 1.7mm, IPC Low Density)
pins: 1 I (power) "Input; block to ground directly at the IC by a ceramic capacitor.", 2 RO (oc) "Reset Output; open collector output", 3 GND (power) "Ground; Pin 3 internally connected to heatsink", 4 D (in) "Reset Delay; connect capacitor to GND for setting delay time", 5 Q (power) "Output; block to ground with a >= 22 uF capacitor, ESR < 5 ohm at 10 kHz.", 6 EP

## TLE4275G V33
designator U?
Linear Voltage Regulator 3.3 V Fixed Output Voltage, 4.4 to 42 V Supply, -40 to 150 degC, PG-TO263-5-1, Reel, Green; Manufacturer: Infineon; PartNumber: TLE4275G V33; Accuracy: 2 %; Green: TRUE; Max. Output Current: 400 mA; Output Voltage: 3.3V; Regulator Type: single output; Typical Quiescent Current: 180 uA; DatasheetVersion: Rev. 1.0; PackageVersion: Sep-08; PackageReference: PG-TO263-5-1; PackageDescription: 5-Pin Plastic (Green) Transistor Single Outline Package, 10 x 9.25 mm Body, 1.7 mm Pitch; Supplier 1: Mouser; Supplier Part Number 1: 726-TLE4275GV33; Supplier 2: Newark; Supplier Part Number 2: 47W3776; Supplier 3: Farnell; Supplier Part Number 3: 2215563; Supplier 4: Digi-Key; Supplier Part Number 4: TLE4275G V33INTR-ND; Supplier 5: Digi-Key; Supplier Part Number 5: TLE4275G V33INCT-ND; Supplier 6: Digi-Key; Supplier Part Number 6: TLE4275G V33INDKR-ND; Dropout Voltage: n/a; Halogen-free: TRUE; Operating Range: 4.4 to 42 V; Packing: Reel; Mounting Technology: Surface Mount; ComponentLink1Description: Manufacturer URL; ComponentLink1URL: http://www.infineon.com/; ComponentLink2Description: Datasheet; ComponentLink2URL: http://www.infineon.com/dgdl/TLE4275v33_DS_rev1.0%5B1%5D.pdf?folderId=db3a304318f3fe290118f5a433570040&fileId=db3a30431be39b97011c41ddba1979dc&location=en.Products.Automotive_ICs.Linear_Voltage_Regulators_for_Automotive-Applications.Linear_Voltage_Regulators_-_Selection_Table.DATASHEET.TLE4275v33_DS_rev1.0[1].pdf; ComponentLink3Description: Package Specification; ComponentLink3URL: http://www.infineon.com/dgdl/TLE4675_DS10.pdf?folderId=db3a30431ddc9372011e26863f92474e&fileId=db3a30431ff9881501201fa645654e52&sId=db3a30433d68e984013d8b6677a5267d
footprint INF-PG-TO263-5-1_N (DPAK, 5-Leads, Body 10x9.25mm, Pitch 1.7mm, IPC Medium Density)
footprint INF-PG-TO263-5-1_L (DPAK, 5-Leads, Body 10x9.25mm, Pitch 1.7mm, IPC High Density)
footprint INF-PG-TO263-5-1_M (DPAK, 5-Leads, Body 10x9.25mm, Pitch 1.7mm, IPC Low Density)
pins: 1 I (power) "Input", 2 RO (oc) "Reset Output", 3 GND (power) "Ground", 4 D (in) "Reset Delay", 5 Q (power) "Output", 6 GND (power) "Ground"

## TLE4275S
designator U?
Low Drop Fixed Voltage Regulator, 5.5 to 42 V Supply, 5 V Output, -40 to 150 degC, PG-TO220-5-12, Tube, Green; Manufacturer: Infineon; PartNumber: TLE4275S; Accuracy: 2 %; Dropout Voltage: 250 mV; Green: TRUE; Max. Output Current: 400 mA; Output Voltage: 5V; Regulator Type: single output; Typical Quiescent Current: 150 uA; DatasheetVersion: Rev. 1.7; PackageVersion: Oct-07; PackageReference: PG-TO220-5-12; PackageDescription: 5-Pin Plastic (Green) Transistor Single Outline Package, 10 x 9.25 mm Body, 1.7 mm Pitch; Supplier 1: Mouser; Supplier Part Number 1: 726-TLE4275S; Supplier 2: Digi-Key; Supplier Part Number 2: TLE4275S-ND; Halogen-free: TRUE; Operating Range: 5.5 to 42 V; Packing: Tube; Mounting Technology: Through Hole; ComponentLink1Description: Manufacturer URL; ComponentLink1URL: http://www.infineon.com/; ComponentLink2Description: Datasheet; ComponentLink2URL: http://www.infineon.com/dgdl/TLE4275v50_DS_rev1.7%5B1%5D.pdf?folderId=db3a304318f3fe290118f5a433570040&fileId=db3a30431be39b97011c4147dace794d&location=en.Products.Automotive_ICs.Linear_Voltage_Regulators_for_Automotive-Applications.Linear_Voltage_Regulators_-_Selection_Table.DATASHEET.TLE4275v50_DS_rev1.7[1].pdf; ComponentLink3Description: Package Specification; ComponentLink3URL: http://www.infineon.com/dgdl/TLE4276_DS_27.pdf?folderId=db3a304318f3fe290118f5a433570040&fileId=db3a30431c48a312011c5093e2fe003f&sId=db3a30443d67b5ca013d81e346312d68
footprint INF-PG-TO220-5-12 (FM, 5-Leads, Body 10x4.4mm, Pitch 1.7mm)
pins: 1 I (power) "Input; block to ground directly at the IC by a ceramic capacitor.", 2 RO (oc) "Reset Output; open collector output", 3 GND (power) "Ground; Pin 3 internally connected to heatsink", 4 D (in) "Reset Delay; connect capacitor to GND for setting delay time", 5 Q (power) "Output; block to ground with a >= 22 uF capacitor, ESR < 5 ohm at 10 kHz."

## TLE4276 V10
designator U?
Low Drop Voltage Regulator, -40 to 150 degC, PG-TO220-5-11, Tube, Green; Manufacturer: Infineon; PartNumber: TLE4276 V10; Green: TRUE; DatasheetVersion: Rev. 2.7; PackageVersion: Jan-10; PackageReference: PG-TO220-5-11; PackageDescription: 5-Pin Plastic (Green) Transistor Single Outline Package, 10 x 9.25 mm, 1.7 mm Pitch; Supplier 1: Digi-Key; Supplier Part Number 1: TLE4276 V10-ND; Halogen-free: TRUE; Packing: Tube; Mounting Technology: Through Hole; ComponentLink1Description: Manufacturer URL; ComponentLink1URL: http://www.infineon.com/; ComponentLink2Description: Datasheet; ComponentLink2URL: http://www.infineon.com/dgdl/TLE4276_DS_27.pdf?folderId=db3a304318f3fe290118f5a433570040&fileId=db3a30431c48a312011c5093e2fe003f; ComponentLink3Description: Package Specification; ComponentLink3URL: http://www.infineon.com/dgdl/TLE4276_DS_27.pdf?folderId=db3a304318f3fe290118f5a433570040&fileId=db3a30431c48a312011c5093e2fe003f&sId=db3a30433f2e70c5013f3f007fea3cf1
footprint INF-PG-TO220-5-11 (FM, 5-Leads, Body 10x4.4mm, Pitch 1.7mm)
pins: 1 I (power) "Input; block to ground directly at the IC with a ceramic capacitor", 2 ~{INH} (in) "Inhibit; low-active input.", 3 GND (power) "Ground", 4 NC "Not connected for V50, V85, V10", 5 Q (power) "Output; block to GND with a >= 22 uF capacitor, ESR =< 3 ohm at 10 kHz"

## TLE4276 V50
designator U?
Low Drop Voltage Regulator, -40 to 150 degC, PG-TO220-5-11, Tube, Green; Manufacturer: Infineon; PartNumber: TLE4276 V50; Green: TRUE; IQ (max): 1,100 mA; Iq (typ): 100 uA; VQ (max): 5.2 V; DatasheetVersion: Rev. 2.7; PackageVersion: Jan-10; PackageReference: PG-TO220-5-11; PackageDescription: 5-Pin Plastic (Green) Transistor Single Outline Package, 10 x 9.25 mm, 1.7 mm Pitch; Supplier 1: Digi-Key; Supplier Part Number 1: TLE4276 V50INTR-ND; Supplier 2: Digi-Key; Supplier Part Number 2: TLE4276 V50IN-ND; Halogen-free: TRUE; Packing: Tube; Mounting Technology: Through Hole; ComponentLink1Description: Manufacturer URL; ComponentLink1URL: http://www.infineon.com/; ComponentLink2Description: Datasheet; ComponentLink2URL: http://www.infineon.com/dgdl/TLE4276_DS_27.pdf?folderId=db3a304318f3fe290118f5a433570040&fileId=db3a30431c48a312011c5093e2fe003f; ComponentLink3Description: Package Specification; ComponentLink3URL: http://www.infineon.com/dgdl/TLE4276_DS_27.pdf?folderId=db3a304318f3fe290118f5a433570040&fileId=db3a30431c48a312011c5093e2fe003f&sId=db3a30433f2e70c5013f3f007fea3cf1
footprint INF-PG-TO220-5-11 (FM, 5-Leads, Body 10x4.4mm, Pitch 1.7mm)
pins: 1 I (power) "Input; block to ground directly at the IC with a ceramic capacitor", 2 ~{INH} (in) "Inhibit; low-active input.", 3 GND (power) "Ground", 4 NC "Not connected for V50, V85, V10", 5 Q (power) "Output; block to GND with a >= 22 uF capacitor, ESR =< 3 ohm at 10 kHz"

## TLE4276 V85
designator U?
Low Drop Voltage Regulator, 9 to 40 V Supply, 8.5 V Output, -40 to 150 degC, PG-TO220-5-11, Tube, Green; Manufacturer: Infineon; PartNumber: TLE4276 V85; Accuracy: 4 %; Dropout Voltage: 250 mV; Green: TRUE; Max. Output Current: 400 mA; Operating Range: 9 to 40 V; Output Voltage: 8.5V; Regulator Type: single output; Typical Quiescent Current: 100 uA; DatasheetVersion: Rev. 2.7; PackageVersion: Jan-10; PackageReference: PG-TO220-5-11; PackageDescription: 5-Pin Plastic (Green) Transistor Single Outline Package, 10 x 9.25 mm, 1.7 mm Pitch; Halogen-free: TRUE; Packing: Tube; Mounting Technology: Through Hole; ComponentLink1Description: Manufacturer URL; ComponentLink1URL: http://www.infineon.com/; ComponentLink2Description: Datasheet; ComponentLink2URL: http://www.infineon.com/dgdl/TLE4276_DS_27.pdf?folderId=db3a304318f3fe290118f5a433570040&fileId=db3a30431c48a312011c5093e2fe003f&location=en.Products.Automotive_ICs.Linear_Voltage_Regulators_for_Automotive-Applications.Linear_Voltage_Regulators_-_Selection_Table.DATASHEET.TLE4276_DS_27.pdf; ComponentLink3Description: Package Specification; ComponentLink3URL: http://www.infineon.com/dgdl/BTS432E2_DS_v11.pdf?folderId=db3a304314dca389011537739e37155f&fileId=db3a304326623792012688c5622b6cb7&sId=db3a30433d68e984013d81a7c1fa73ed
footprint INF-PG-TO220-5-11 (FM, 5-Leads, Body 10x4.4mm, Pitch 1.7mm)
pins: 1 I (power) "Input; block to ground directly at the IC with a ceramic capacitor.", 2 ~{INH} (in) "Inhibit; low-active input.", 3 GND (power) "Ground", 4 NC "Not connected for V50, V85, V10", 5 Q (power) "Output; block to GND with a = 22 uF capacitor, ESR = 3 ohm at 10 kHz"

## TLE4276-2DV
designator U?
Low Drop Voltage Regulator, 4.5 to 40 V Supply, Adjustable Output, -40 to 150 degC, PG-TO252-5-11, Reel, Green; Manufacturer: Infineon; PartNumber: TLE4276-2DV; Accuracy: 2 %; Dropout Voltage: 250 mV; Green: TRUE; Max. Output Current: 400 mA; Output Voltage: adj.; Regulator Type: single output; Typical Quiescent Current: 100 uA; DatasheetVersion: Rev. 1.1; PackageVersion: Nov-10; PackageReference: PG-TO252-5-11; PackageDescription: 5-Pin Plastic (Green) Transistor Single Outline Package, 6.5 x 6.12 mm Body, 1.14 mm Pitch; Supplier 1: Mouser; Supplier Part Number 1: 726-TLE42762DV; Supplier 2: Digi-Key; Supplier Part Number 2: TLE4276-2DV-ND; Halogen-free: TRUE; Operating Range: 4.5 to 40 V; Packing: Reel; Mounting Technology: Surface Mount; ComponentLink1Description: Manufacturer URL; ComponentLink1URL: http://www.infineon.com/; ComponentLink2Description: Datasheet; ComponentLink2URL: http://www.infineon.com/dgdl/TLE4276-2_DS_11.pdf?folderId=db3a304318f3fe290118f5a433570040&fileId=db3a30432239cccd012259a409ec6bcb&location=en.Products.Automotive_ICs.Linear_Voltage_Regulators_for_Automotive-Applications.Linear_Voltage_Regulators_-_Selection_Table.DATASHEET.TLE4276-2_DS_11.pdf; ComponentLink3Description: Package Specification; ComponentLink3URL: http://www.infineon.com/dgdl/TLE7276-Data+Sheet-+v1_11.pdf?folderId=db3a304412b407950112b408e8c90004&fileId=db3a304412b407950112b436c53f66c8&sId=db3a30433db6f09f013dc0e43c0428c1
footprint INF-PG-TO252-5-11_N (DPAK, 5-Leads, Body 6.5x6.12mm, Pitch 1.14mm, IPC Medium Density)
footprint INF-PG-TO252-5-11_L (DPAK, 5-Leads, Body 6.5x6.12mm, Pitch 1.14mm, IPC High Density)
footprint INF-PG-TO252-5-11_M (DPAK, 5-Leads, Body 6.5x6.12mm, Pitch 1.14mm, IPC Low Density)
pins: 1 I (power) "Input; block to ground directly at the IC with a ceramic capacitor.", 2 ~{INH} (in) "Inhibit; low-active input.", 3 GND (power) "Ground", 4 VA (in) "Voltage Adjust Input; only for adjustable version. Connect an external voltage divider to determine the output voltage.", 5 Q (power) "Output; block to GND with a = 22 μF capacitor, ESR = 3 O at 10 kHz"

## TLE4276-2GV
designator U?
Low Drop Voltage Regulator, 4.5 to 40 V Supply, Adjustable Output, -40 to 150 degC, PG-TO263-5-1, Reel, Green; Manufacturer: Infineon; PartNumber: TLE4276-2GV; Accuracy: 2 %; Dropout Voltage: 250 mV; Green: TRUE; Max. Output Current: 400 mA; Output Voltage: adj.; Regulator Type: single output; Typical Quiescent Current: 100 uA; DatasheetVersion: Rev. 1.1; PackageVersion: Sep-08; PackageReference: PG-TO263-5-1; PackageDescription: 5-Pin Plastic (Green) Transistor Single Outline Package, 10 x 9.25 mm Body, 1.7 mm Pitch; Supplier 1: Mouser; Supplier Part Number 1: 726-TLE42762GV; Supplier 2: Digi-Key; Supplier Part Number 2: TLE4276-2GV-ND; Halogen-free: TRUE; Operating Range: 4.5 to 40 V; Packing: Reel; Mounting Technology: Surface Mount; ComponentLink1Description: Manufacturer URL; ComponentLink1URL: http://www.infineon.com/; ComponentLink2Description: Datasheet; ComponentLink2URL: http://www.infineon.com/dgdl/TLE4276-2_DS_11.pdf?folderId=db3a304318f3fe290118f5a433570040&fileId=db3a30432239cccd012259a409ec6bcb&location=en.Products.Automotive_ICs.Linear_Voltage_Regulators_for_Automotive-Applications.Linear_Voltage_Regulators_-_Selection_Table.DATASHEET.TLE4276-2_DS_11.pdf; ComponentLink3Description: Package Specification; ComponentLink3URL: http://www.infineon.com/dgdl/TLE4675_DS10.pdf?folderId=db3a30431ddc9372011e26863f92474e&fileId=db3a30431ff9881501201fa645654e52&sId=db3a30433d68e984013d8b6677a5267d
footprint INF-PG-TO263-5-1_N (DPAK, 5-Leads, Body 10x9.25mm, Pitch 1.7mm, IPC Medium Density)
footprint INF-PG-TO263-5-1_L (DPAK, 5-Leads, Body 10x9.25mm, Pitch 1.7mm, IPC High Density)
footprint INF-PG-TO263-5-1_M (DPAK, 5-Leads, Body 10x9.25mm, Pitch 1.7mm, IPC Low Density)
pins: 1 I (power) "Input; block to ground directly at the IC with a ceramic capacitor.", 2 ~{INH} (in) "Inhibit; low-active input.", 3 GND (power) "Ground", 4 VA (in) "Voltage Adjust Input; only for adjustable version. Connect an external voltage divider to determine the output voltage.", 5 Q (power) "Output; block to GND with a = 22 μF capacitor, ESR = 3 O at 10 kHz"

## TLE4276D V50
designator U?
Low Drop Voltage Regulator, 5.5 to 40 V Supply, 5 V Output, -40 to 150 degC, PG-TO252-5-11, Reel, Green; Manufacturer: Infineon; PartNumber: TLE4276D V50; Accuracy: 4 %; Dropout Voltage: 250 mV; Green: TRUE; Max. Output Current: 400 mA; Output Voltage: 5V; Regulator Type: single output; Typical Quiescent Current: 100 uA; DatasheetVersion: Rev. 2.7; PackageVersion: Nov-10; PackageReference: PG-TO252-5-11; PackageDescription: 5-Pin Plastic (Green) Transistor Single Outline Package, 6.5 x 6.12 mm Body, 1.14 mm Pitch; Supplier 1: Mouser; Supplier Part Number 1: 726-TLE4276DV50; Supplier 2: Digi-Key; Supplier Part Number 2: TLE4276D V50-ND; Halogen-free: TRUE; Operating Range: 5.5 to 40 V; Packing: Reel; Mounting Technology: Surface Mount; ComponentLink1Description: Manufacturer URL; ComponentLink1URL: http://www.infineon.com/; ComponentLink2Description: Datasheet; ComponentLink2URL: http://www.infineon.com/dgdl/TLE4276_DS_27.pdf?folderId=db3a304318f3fe290118f5a433570040&fileId=db3a30431c48a312011c5093e2fe003f&location=en.Products.Automotive_ICs.Linear_Voltage_Regulators_for_Automotive-Applications.Linear_Voltage_Regulators_-_Selection_Table.DATASHEET.TLE4276_DS_27.pdf; ComponentLink3Description: Package Specification; ComponentLink3URL: http://www.infineon.com/dgdl/TLE7276-Data+Sheet-+v1_11.pdf?folderId=db3a304412b407950112b408e8c90004&fileId=db3a304412b407950112b436c53f66c8&sId=db3a30433db6f09f013dc0e43c0428c1
footprint INF-PG-TO252-5-11_N (DPAK, 5-Leads, Body 6.5x6.12mm, Pitch 1.14mm, IPC Medium Density)
footprint INF-PG-TO252-5-11_L (DPAK, 5-Leads, Body 6.5x6.12mm, Pitch 1.14mm, IPC High Density)
footprint INF-PG-TO252-5-11_M (DPAK, 5-Leads, Body 6.5x6.12mm, Pitch 1.14mm, IPC Low Density)
pins: 1 I (power) "Input; block to ground directly at the IC with a ceramic capacitor.", 2 ~{INH} (in) "Inhibit; low-active input.", 3 GND (power) "Ground", 4 NC "Not connected for V50, V85, V10", 5 Q (power) "Output; block to GND with a >= 22 uF capacitor, ESR =< 3 ohm at 10 kHz"

## TLE4276DV
designator U?
Low Drop Voltage Regulator, 5.5 to 40 V Supply, Adjustable Output, -40 to 150 degC, PG-TO252-5-11, Reel, Green; Manufacturer: Infineon; PartNumber: TLE4276DV; Accuracy: 4 %; Dropout Voltage: 250 mV; Green: TRUE; Max. Output Current: 400 mA; Output Voltage: adj.; Regulator Type: single output; Typical Quiescent Current: 100 uA; DatasheetVersion: Rev. 2.7; PackageVersion: Nov-10; PackageReference: PG-TO252-5-11; PackageDescription: 5-Pin Plastic (Green) Transistor Single Outline Package, 6.5 x 6.12 mm Body, 1.14 mm Pitch; Supplier 1: Mouser; Supplier Part Number 1: 726-TLE4276DV; Supplier 2: Digi-Key; Supplier Part Number 2: TLE4276DVTR-ND; Supplier 3: Digi-Key; Supplier Part Number 3: TLE4276DVCT-ND; Supplier 4: Digi-Key; Supplier Part Number 4: TLE4276DVDKR-ND; Halogen-free: TRUE; Operating Range: 5.5 to 40 V; Packing: Reel; Mounting Technology: Surface Mount; ComponentLink1Description: Manufacturer URL; ComponentLink1URL: http://www.infineon.com/; ComponentLink2Description: Datasheet; ComponentLink2URL: http://www.infineon.com/dgdl/TLE4276_DS_27.pdf?folderId=db3a304318f3fe290118f5a433570040&fileId=db3a30431c48a312011c5093e2fe003f&location=en.Products.Automotive_ICs.Linear_Voltage_Regulators_for_Automotive-Applications.Linear_Voltage_Regulators_-_Selection_Table.DATASHEET.TLE4276_DS_27.pdf; ComponentLink3Description: Package Specification; ComponentLink3URL: http://www.infineon.com/dgdl/TLE7276-Data+Sheet-+v1_11.pdf?folderId=db3a304412b407950112b408e8c90004&fileId=db3a304412b407950112b436c53f66c8&sId=db3a30433db6f09f013dc0e43c0428c1
footprint INF-PG-TO252-5-11_N (DPAK, 5-Leads, Body 6.5x6.12mm, Pitch 1.14mm, IPC Medium Density)
footprint INF-PG-TO252-5-11_L (DPAK, 5-Leads, Body 6.5x6.12mm, Pitch 1.14mm, IPC High Density)
footprint INF-PG-TO252-5-11_M (DPAK, 5-Leads, Body 6.5x6.12mm, Pitch 1.14mm, IPC Low Density)
pins: 1 I (power) "Input; block to ground directly at the IC with a ceramic capacitor.", 2 ~{INH} (in) "Inhibit; low-active input.", 3 GND (power) "Ground", 4 VA (in) "Voltage Adjust Input; only for adjustable version. Connect an external voltage divider to determine the output voltage.", 5 Q (power) "Output; block to GND with a = 22 μF capacitor, ESR = 3 O at 10 kHz"

## TLE4276G V10
designator U?
Low Drop Voltage Regulator, 10.5 to 40 V Supply, 10 V Output, -40 to 150 degC, PG-TO263-5-1, Reel, Green; Manufacturer: Infineon; PartNumber: TLE4276G V10; Accuracy: 4 %; Dropout Voltage: 250 mV; Green: TRUE; Max. Output Current: 400 mA; Output Voltage: 10V; Regulator Type: single output; Typical Quiescent Current: 100 uA; DatasheetVersion: Rev. 2.7; PackageVersion: Sep-08; PackageReference: PG-TO263-5-1; PackageDescription: 5-Pin Plastic (Green) Transistor Single Outline Package, 10 x 9.25 mm Body, 1.7 mm Pitch; Supplier 1: Digi-Key; Supplier Part Number 1: TLE4276G V10INTR-ND; Supplier 2: Digi-Key; Supplier Part Number 2: TLE4276G V10INCT-ND; Supplier 3: Digi-Key; Supplier Part Number 3: TLE4276G V10INDKR-ND; Halogen-free: TRUE; Operating Range: 10.5 to 40 V; Packing: Reel; Mounting Technology: Surface Mount; ComponentLink1Description: Manufacturer URL; ComponentLink1URL: http://www.infineon.com/; ComponentLink2Description: Datasheet; ComponentLink2URL: http://www.infineon.com/dgdl/TLE4276_DS_27%5B1%5D.pdf?folderId=db3a30431ddc9372011e26863f92474e&fileId=db3a304325305e6d012559b3faeb46ce&location=en.Products.Automotive_ICs.Linear_Voltage_Regulators_for_Automotive-Applications.Linear_Voltage_Regulators_-_Selection_Table.DATASHEET.TLE4276_DS_27[1].pdf; ComponentLink3Description: Package Specification; ComponentLink3URL: http://www.infineon.com/dgdl/TLE4675_DS10.pdf?folderId=db3a30431ddc9372011e26863f92474e&fileId=db3a30431ff9881501201fa645654e52&sId=db3a30433d68e984013d8b6677a5267d
footprint INF-PG-TO263-5-1_N (DPAK, 5-Leads, Body 10x9.25mm, Pitch 1.7mm, IPC Medium Density)
footprint INF-PG-TO263-5-1_L (DPAK, 5-Leads, Body 10x9.25mm, Pitch 1.7mm, IPC High Density)
footprint INF-PG-TO263-5-1_M (DPAK, 5-Leads, Body 10x9.25mm, Pitch 1.7mm, IPC Low Density)
pins: 1 I (power) "Input; block to ground directly at the IC with a ceramic capacitor.", 2 ~{INH} (in) "Inhibit; low-active input.", 3 GND (power) "Ground", 4 NC "Not connected for V50, V85, V10", 5 Q (power) "Output; block to GND with a = 22 uF capacitor, ESR = 3 ohm at 10 kHz"

## TLE4276G V50
designator U?
Low Drop Voltage Regulator, 5.5 to 40 V Supply, 5 V Output, -40 to 150 degC, PG-TO263-5-1, Reel, Green; Manufacturer: Infineon; PartNumber: TLE4276G V50; Accuracy: 4 %; Dropout Voltage: 250 mV; Green: TRUE; Max. Output Current: 400 mA; Output Voltage: 5V; Regulator Type: single output; Typical Quiescent Current: 100 uA; DatasheetVersion: Rev. 2.7; PackageVersion: Sep-08; PackageReference: PG-TO263-5-1; PackageDescription: 5-Pin Plastic (Green) Transistor Single Outline Package, 10 x 9.25 mm Body, 1.7 mm Pitch; Supplier 1: Digi-Key; Supplier Part Number 1: TLE4276G V50-ND; Halogen-free: TRUE; Operating Range: 5.5 to 40 V; Packing: Reel; Mounting Technology: Surface Mount; ComponentLink1Description: Manufacturer URL; ComponentLink1URL: http://www.infineon.com/; ComponentLink2Description: Datasheet; ComponentLink2URL: http://www.infineon.com/dgdl/TLE4276_DS_27.pdf?folderId=db3a304318f3fe290118f5a433570040&fileId=db3a30431c48a312011c5093e2fe003f&location=en.Products.Automotive_ICs.Linear_Voltage_Regulators_for_Automotive-Applications.Linear_Voltage_Regulators_-_Selection_Table.DATASHEET.TLE4276_DS_27.pdf; ComponentLink3Description: Package Specification; ComponentLink3URL: http://www.infineon.com/dgdl/TLE4675_DS10.pdf?folderId=db3a30431ddc9372011e26863f92474e&fileId=db3a30431ff9881501201fa645654e52&sId=db3a30433d68e984013d8b6677a5267d
footprint INF-PG-TO263-5-1_N (DPAK, 5-Leads, Body 10x9.25mm, Pitch 1.7mm, IPC Medium Density)
footprint INF-PG-TO263-5-1_L (DPAK, 5-Leads, Body 10x9.25mm, Pitch 1.7mm, IPC High Density)
footprint INF-PG-TO263-5-1_M (DPAK, 5-Leads, Body 10x9.25mm, Pitch 1.7mm, IPC Low Density)
pins: 1 I (power) "Input; block to ground directly at the IC with a ceramic capacitor.", 2 ~{INH} (in) "Inhibit; low-active input.", 3 GND (power) "Ground", 4 NC "Not connected for V50, V85, V10", 5 Q (power) "Output; block to GND with a = 22 uF capacitor, ESR = 3 ohm at 10 kHz"